# EAGLE library part SENSOR_SPI_2X3 (library wiring)
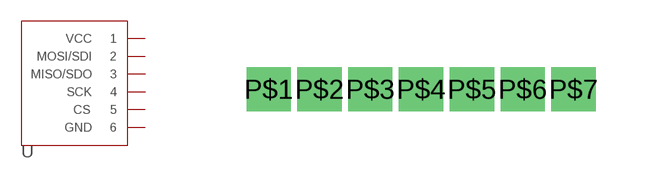
[diagram p5: symbol with the pads of PINS_7; footprint PINS_7]

Designator prefix -

## SENSOR_SPI_2X3  [PINS_7]
P$1  1
P$2  2
P$3  3
P$4  4
P$5  5
P$6  6

## Footprint PINS_7 (pad centres in mm)
drill 0.6 square: P$1 -2.54,0; P$2 -1.27,0; P$3 0,0; P$4 1.27,0; P$5 2.54,0; P$6 3.81,0; P$7 5.08,0